# Altium schematic symbol library Schlib_C&K.SchLib: 2 symbols
Pins are listed as number, name and electrical type; pins without a type are passive.

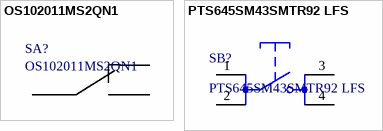
[diagram p0: symbols OS102011MS2QN1 to PTS645SM43SMTR92 LFS]

## OS102011MS2QN1
designator SA?
Switch slide SPDT 100mA 12V; Manufacturer: C&K; PartNumber: OS102011MS2QN1
footprint OS102011MS2QN1
pins: 1, 2, 3

## PTS645SM43SMTR92 LFS
designator SB?
Tact Button; Part Number: PTS645SM43SMTR92 LFS
footprint PTS645SM43SMTR92 LFS
pins: 1, 2, 3, 4